# Altium footprint library ebf FPGA ADC DAC 20191230_PCB库_AD格式.PcbLib: 17 footprints (part 2 of 2)
Each footprint in its own frame and in the unit in brackets; x right, y up, seen from the top. Pads: shape width x height; smd on the part's side, far side on the other; paste and mask are expansions set on the pad; w line width, h text height; cw(c..) or ccw(c..) is an arc to the next point about the centre after c.
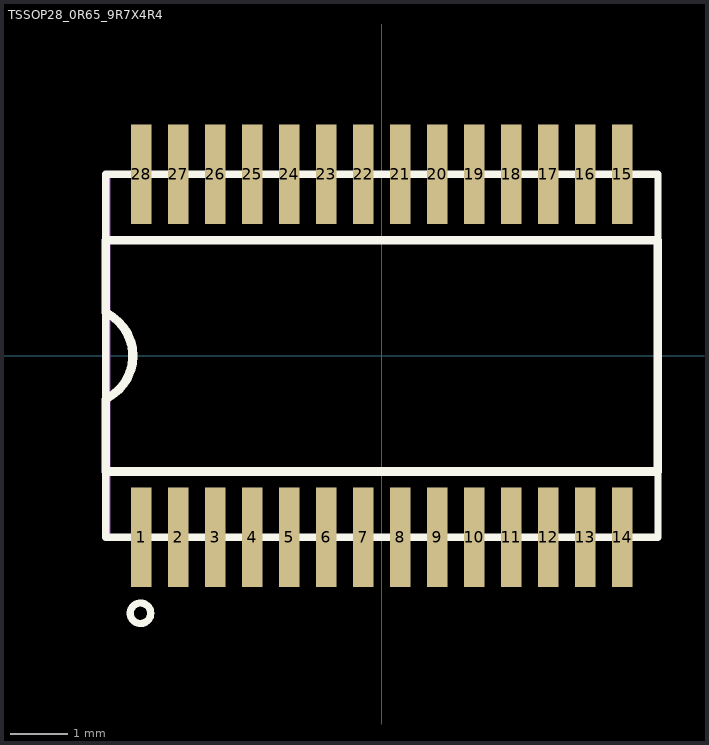
[diagram p1: the footprint, top view; thin cyan lines are the x and y axes]

## TSSOP28_0R65_9R7X4R4 [mil]
pads (28):
  rect 14x69 smd mask+3: 1(-166.34,-125.49) 2(-140.75,-125.49) 3(-115.16,-125.49) 4(-89.57,-125.49) 5(-63.98,-125.49) 6(-38.39,-125.49) 7(-12.8,-125.49) 8(12.8,-125.49) 9(38.39,-125.49) 10(63.98,-125.49) 11(89.57,-125.49) 12(115.16,-125.49) 13(140.75,-125.49) 14(166.34,-125.49) 15(166.34,125.49) 16(140.75,125.49) 17(115.16,125.49) 18(89.57,125.49) 19(63.98,125.49) 20(38.39,125.49) 21(12.8,125.49) 22(-12.8,125.49) 23(-38.39,125.49) 24(-63.98,125.49) 25(-89.57,125.49) 26(-115.16,125.49) 27(-140.75,125.49) 28(-166.34,125.49)
Top Overlay:
  circle w5: c-166.92,-178.08 r7.1
  lines w5: -190.94,-30 ccw(c-204.3,0) -190.94,30 ; -190.96,-125.49 -190.96,125.49 190.95,125.49 190.95,-125.49 -190.96,-125.49
  lines w6: -190.98,-30.02 ccw(c-205.82,0) -190.93,29.99 -190.95,80 190.95,80 190.95,-80 -190.95,-80 -190.95,-30
Top Assembly:
  text "U6" at 39.04,25 h50
Mechanical 20:
  lines w1: -188,-125 192,-125 192,125 -188,125 -188,-125